# Altium footprint library footprint_lib.PcbLib: 11 footprints
Each footprint in its own frame and in the unit in brackets; x right, y up, seen from the top. Pads: shape width x height; smd on the part's side, far side on the other; paste and mask are expansions set on the pad; w line width, h text height; cw(c..) or ccw(c..) is an arc to the next point about the centre after c.
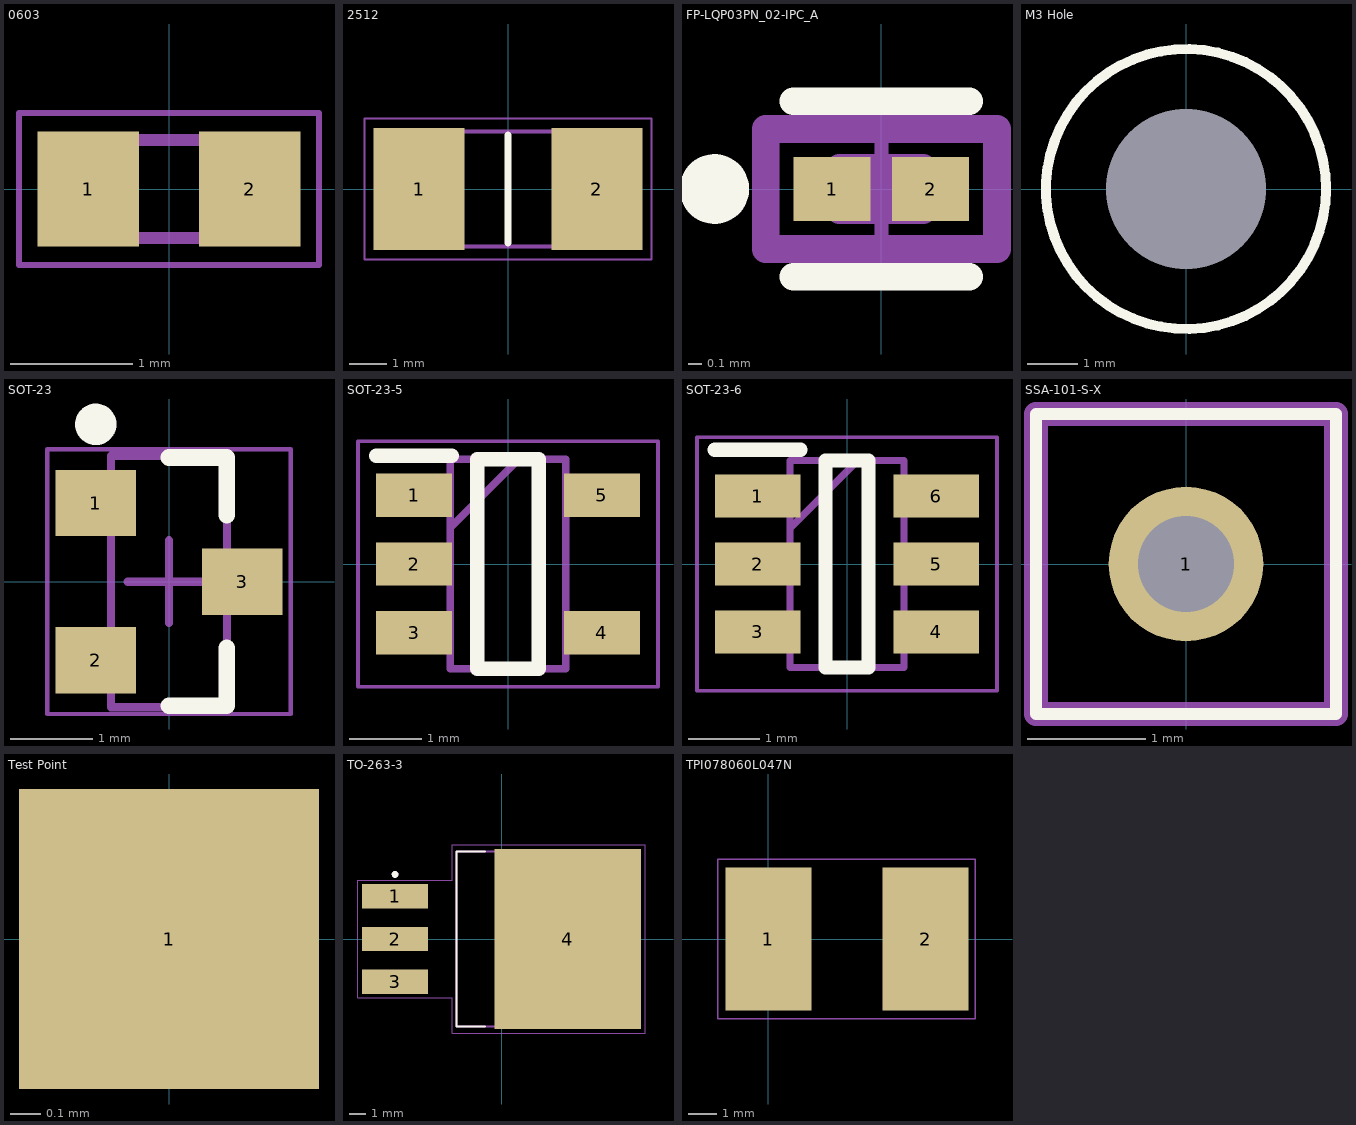
[diagram p0: the footprints below, top view; thin cyan lines are the x and y axes]

## 0603 [mm]
pads (2):
  rect 0.83x0.94 smd: 1(-0.66,0) 2(0.66,0)
Mechanical 13:
  lines w0.1: -0.8,-0.4 0.8,-0.4 0.8,0.4 -0.8,0.4 -0.8,-0.4
Mechanical 15:
  lines w0.05: -1.225,-0.62 1.225,-0.62 1.225,0.62 -1.225,0.62 -1.225,-0.62
3D body "CC0603KRX5R8BB105.stp": height 0.9, standoff 0, extent -0.8,-0.4 0.8,0.4

## 2512 [mm]
pads (2):
  rect 2.45x3.3 smd: 1(-2.4,0) 2(2.4,0)
Top Overlay:
  lines w0.2: 0,-1.45 0,1.45
Mechanical 13:
  lines w0.1: -3.15,-1.55 3.15,-1.55 3.15,1.55 -3.15,1.55 -3.15,-1.55
Mechanical 15:
  lines w0.05: -3.875,-1.9 3.875,-1.9 3.875,1.9 -3.875,1.9 -3.875,-1.9
3D body "CRM2512-JW-100ELF.stp": height 0.8, standoff 0, extent -3.15,-1.55 3.15,1.55

## FP-LQP03PN_02-IPC_A [mm]
pads (2):
  rect 0.554x0.463 smd paste+0 mask+0: 1(-0.354,0) 2(0.354,0)
Top Overlay:
  circle w0.25: c-1.2,0 r0.125
  lines w0.2: -0.631,-0.631 0.631,-0.631 ; -0.631,0.631 0.631,0.631
Top 3D Body:
  lines w0.2: -0.3,-0.15 0.3,-0.15 0.3,0.15 -0.3,0.15 -0.3,-0.15
Top Assembly:
  lines w0.2: -0.831,-0.431 0.831,-0.431 0.831,0.431 -0.831,0.431 -0.831,-0.431
  text ".Designator" at 0,0 h1
Top Courtyard:
  lines w0.2: -0.831,-0.431 0.831,-0.431 0.831,0.431 -0.831,0.431 -0.831,-0.431
Top Component Center:
  lines w0.1: -0.5,0 0.5,0 ; 0,-0.5 0,0.5
3D body "Ind_Murata_LQP03TG39NJ02D_eec.STEP": height 0.25, standoff 0, extent -0.831,-0.431 0.831,0.431

## M3 Hole [mm]
pads (1):
  round 0 hole 3.2 unplated mask+0.1: 1(0,0)
Top Overlay:
  circle w0.2: c0,0 r2.8
Bottom Overlay:
  circle w0.2: c0,0 r3
Keep-Out Layer:
  circle w0.1: c0,0 r2.8

## SOT-23 [mm] "SOT23, 3-Leads, Body 3.04x1.4mm, Pitch 0.95mm"
height 1.12
pads (3):
  rect 0.972x0.802 smd: 1(-0.885,0.95) 2(-0.885,-0.95) 3(0.885,0)
Top Overlay:
  circle w0.25: c-0.885,1.901 r0.125
  lines w0.2: 0,-1.5 0.7,-1.5 0.7,-0.801 ; 0,1.5 0.7,1.5 0.7,0.801
Mechanical 13:
  lines w0.1: -0.7,-1.52 -0.7,1.52 0.7,1.52 0.7,-1.52 -0.7,-1.52
Mechanical 15:
  lines w0.05: -1.471,-1.6 -1.471,1.6 1.471,1.6 1.471,-1.6 -1.471,-1.6
  lines w0.1: -0.5,0 0.5,0 ; 0,-0.5 0,0.5
3D body "SOT95P237X112-3L.step": height 1.12, standoff 0, extent -1.32,-1.52 1.32,1.52

## SOT-23-5 [mm]
pads (5):
  rect 1.05x0.6 smd: 1(-1.3,0.95) 2(-1.3,0) 3(-1.3,-0.95) 4(1.3,-0.95) 5(1.3,0.95)
Top Overlay:
  lines w0.2: -1.825,1.5 -0.775,1.5 ; -0.425,-1.45 -0.425,1.45 0.425,1.45 0.425,-1.45 -0.425,-1.45
Mechanical 13:
  lines w0.1: -0.8,0.5 0.15,1.45 ; -0.8,-1.45 -0.8,1.45 0.8,1.45 0.8,-1.45 -0.8,-1.45
Mechanical 15:
  lines w0.05: -2.075,-1.7 -2.075,1.7 2.075,1.7 2.075,-1.7 -2.075,-1.7
3D body "MIC5317-3.3YM5-TR.stp": height 1, standoff 0, extent -1.4,-1.45 1.4,1.45

## SOT-23-6 [mm]
pads (6):
  rect 1.2x0.6 smd: 1(-1.25,0.95) 2(-1.25,0) 3(-1.25,-0.95) 4(1.25,-0.95) 5(1.25,0) 6(1.25,0.95)
Top Overlay:
  lines w0.2: -1.85,1.6 -0.65,1.6 ; -0.3,-1.45 -0.3,1.45 0.3,1.45 0.3,-1.45 -0.3,-1.45
Mechanical 13:
  lines w0.1: -0.8,0.5 0.15,1.45 ; -0.8,-1.45 -0.8,1.45 0.8,1.45 0.8,-1.45 -0.8,-1.45
Mechanical 15:
  lines w0.05: -2.1,-1.775 -2.1,1.775 2.1,1.775 2.1,-1.775 -2.1,-1.775
3D body "TS5A3160DBVR.stp": height 1.2, standoff 0, extent -1.4,-1.45 1.4,1.45

## SSA-101-S-X [mm]
pads (1):
  round 1.31 hole 0.81: 1(0,0)
Top Overlay:
  lines w0.1: -1.27,-1.27 -1.27,1.27 1.27,1.27 1.27,-1.27 -1.27,-1.27
Mechanical 13:
  lines w0.2: -1.27,-1.27 -1.27,1.27 1.27,1.27 1.27,-1.27 -1.27,-1.27
3D body "SSA-101-S-T.stp": height 5.9, standoff -3.78, extent -1.27,-1.27 1.27,1.27

## Test Point [mm]
pads (1):
  rect 1x1 smd: 1(0,0)

## TO-263-3 [mm]
pads (4):
  rect 3.92x1.45 smd: 1(-6.35,2.54) 2(-6.35,0) 3(-6.35,-2.54)
  rect 8.75x10.75 smd paste-6: 4(3.95,0)
Top Overlay:
  circle w0.2: c-6.35,3.85 r0.1
  lines w0.127: -1,-5.207 -2.692,-5.207 -2.692,5.207 -1,5.207
Top Paste:
  region: 3.68,0.27 2.23,0.27 2.23,1.53 3.68,1.53
  region: 5.72,0.27 4.27,0.27 4.27,1.53 5.72,1.53
  region: 1.64,0.27 0.19,0.27 0.19,1.53 1.64,1.53
  region: 3.68,2.07 2.23,2.07 2.23,3.33 3.68,3.33
  region: 5.72,2.07 4.27,2.07 4.27,3.33 5.72,3.33
  region: 1.64,2.07 0.19,2.07 0.19,3.33 1.64,3.33
  region: 3.68,3.87 2.23,3.87 2.23,5.13 3.68,5.13
  region: 5.72,3.87 4.27,3.87 4.27,5.13 5.72,5.13
  region: 1.64,3.87 0.19,3.87 0.19,5.13 1.64,5.13
  region: 3.68,-1.53 2.23,-1.53 2.23,-0.27 3.68,-0.27
  region: 5.72,-1.53 4.27,-1.53 4.27,-0.27 5.72,-0.27
  region: 1.64,-1.53 0.19,-1.53 0.19,-0.27 1.64,-0.27
  region: 3.68,-3.33 2.23,-3.33 2.23,-2.07 3.68,-2.07
  region: 5.72,-3.33 4.27,-3.33 4.27,-2.07 5.72,-2.07
  region: 1.64,-3.33 0.19,-3.33 0.19,-2.07 1.64,-2.07
  region: 3.68,-5.13 2.23,-5.13 2.23,-3.87 3.68,-3.87
  region: 5.72,-5.13 4.27,-5.13 4.27,-3.87 5.72,-3.87
  region: 1.64,-5.13 0.19,-5.13 0.19,-3.87 1.64,-3.87
  region: 7.72,0.27 6.27,0.27 6.27,1.53 7.72,1.53
  region: 7.72,2.07 6.27,2.07 6.27,3.33 7.72,3.33
  region: 7.72,3.87 6.27,3.87 6.27,5.13 7.72,5.13
  region: 7.72,-1.53 6.27,-1.53 6.27,-0.27 7.72,-0.27
  region: 7.72,-3.33 6.27,-3.33 6.27,-2.07 7.72,-2.07
  region: 7.72,-5.13 6.27,-5.13 6.27,-3.87 7.72,-3.87
Mechanical 13:
  circle w0.2: c-6.35,3.85 r0.1
  lines w0.127: -2.692,-5.207 6.35,-5.207 6.35,5.207 -2.692,5.207 -2.692,-5.207
Mechanical 15:
  lines w0.05: -8.56,-3.515 -2.942,-3.515 -2.942,-5.625 8.575,-5.625 8.575,5.625 -2.942,5.625 -2.942,3.515 -8.56,3.515 -8.56,-3.515

## TPI078060L047N [mm]
pads (2):
  rect 3x5 smd: 1(0,0) 2(5.5,0)
Mechanical 15:
  lines w0.05: -1.778,-2.794 7.239,-2.794 7.239,2.794 -1.778,2.794 -1.778,-2.794